# EAGLE library part EEP_512KX8_SST28SF040A (library 07-Retrocomputing)
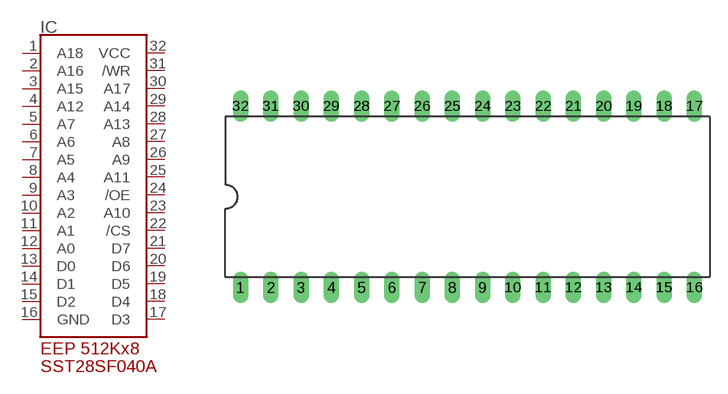
[diagram p10: symbol with the pads of DIL32; footprint DIL32]

Designator prefix IC

## EEP_512KX8_SST28SF040A  [DIL32]
1  A18
2  A16
3  A15
4  A12
5  A7
6  A6
7  A5
8  A4
9  A3
10  A2
11  A1
12  A0
13  D0
14  D1
15  D2
16  GND
17  D3
18  D4
19  D5
20  D6
21  D7
22  /CS
23  A10
24  /OE
25  A11
26  A9
27  A8
28  A13
29  A14
30  A17
31  /WR
32  VCC

## Footprint DIL32 (pad centres in mm)
Dual In Line Package
drill 0.813 long: 1 -19.05,-7.62; 2 -16.51,-7.62; 3 -13.97,-7.62; 4 -11.43,-7.62; 5 -8.89,-7.62; 6 -6.35,-7.62; 7 -3.81,-7.62; 8 -1.27,-7.62; 9 1.27,-7.62; 10 3.81,-7.62; 11 6.35,-7.62; 12 8.89,-7.62; 13 11.43,-7.62; 14 13.97,-7.62; 15 16.51,-7.62; 16 19.05,-7.62; 17 19.05,7.62; 18 16.51,7.62; 19 13.97,7.62; 20 11.43,7.62; 21 8.89,7.62; 22 6.35,7.62; 23 3.81,7.62; 24 1.27,7.62; 25 -1.27,7.62; 26 -3.81,7.62; 27 -6.35,7.62; 28 -8.89,7.62; 29 -11.43,7.62; 30 -13.97,7.62; 31 -16.51,7.62; 32 -19.05,7.62